# EAGLE library part SNES_CON_90D (library IntelMKR_ExpP)
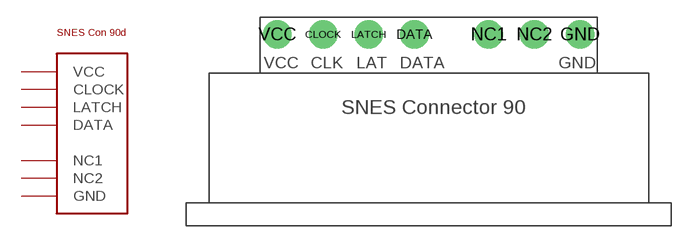
[diagram p8: symbol with the pads of SNES_CON_90D; footprint SNES_CON_90D]

Designator prefix -

## SNES_CON_90D  [SNES_CON_90D]
CLOCK  CLOCK
DATA  DATA  out
GND  GND  pwr
LATCH  LATCH
NC1  NC1  nc
NC2  NC2  nc
VCC  VCC  pwr

## Footprint SNES_CON_90D (pad centres in mm)
drill 1.3 pad 2.5: CLOCK -8,0; DATA 0,0; GND 14.5,0; LATCH -4,0; NC1 6.5,0; NC2 10.5,0; VCC -12,0